# Altium integrated library JF_master_lib.IntLib: 38 symbols
Pins are listed as number, name and electrical type; pins without a type are passive.

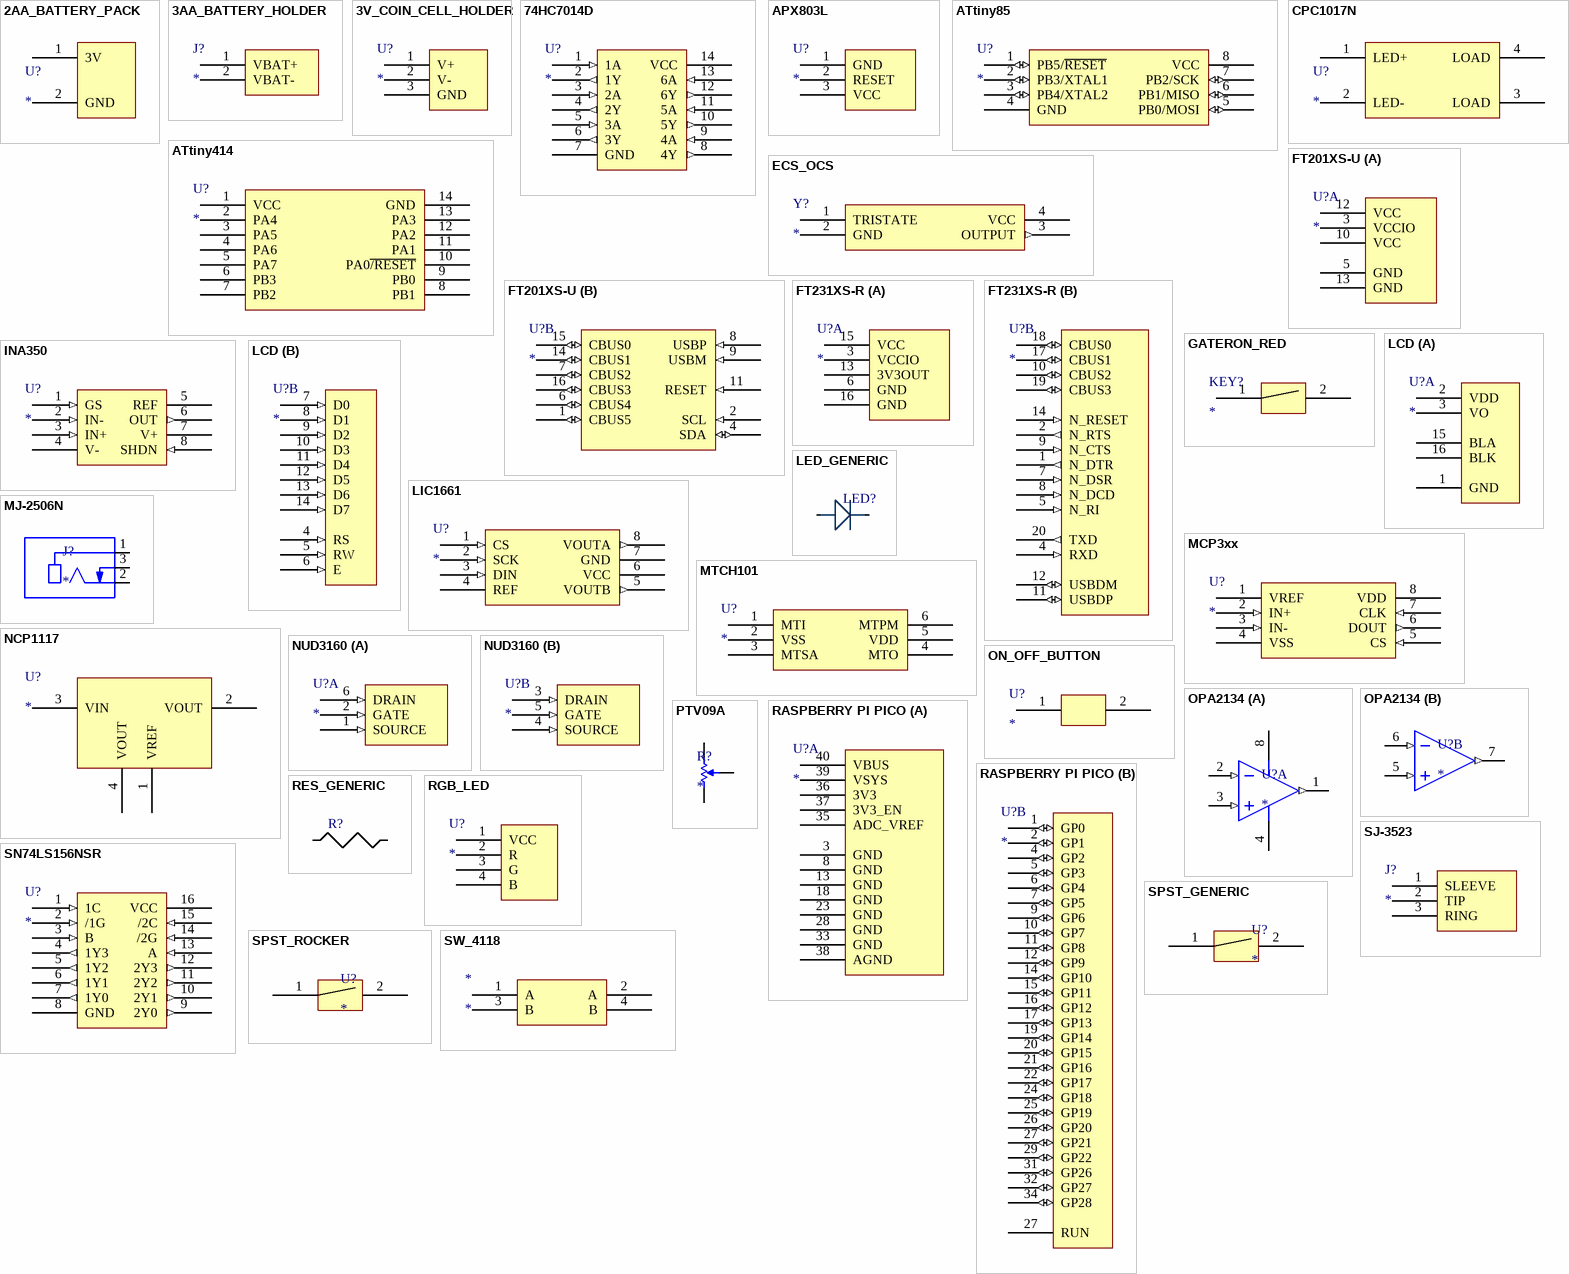
[diagram p0: symbols 2AA_BATTERY_PACK to SW_4118]

## 2AA_BATTERY_PACK
designator U?
footprint 2AA_BATTERY_PACK
pins: 1 3V (power), 2 GND (power)

## 3AA_BATTERY_HOLDER
designator J?
footprint 3AA_BATTERY_HOLDER
pins: 1 VBAT+ (power), 2 VBAT- (power)

## 3V_COIN_CELL_HOLDER
designator U?
Linx Technologies 712-BAT-HLD-003-SMT
footprint 3V_COIN_CELL_HOLDER
pins: 1 V+ (power), 2 V- (power), 3 GND (power)

## 74HC7014D
designator U?
footprint SO14 (SOP, 14-Leads, Body 8.65x3.90mm, Pitch 1.27mm, IPC Medium Density)
pins: 1 1A (in), 2 1Y (out), 3 2A (in), 4 2Y (out), 5 3A (in), 6 3Y (out), 7 GND (power), 8 4Y (out), 9 4A (in), 10 5Y (out), 11 5A (in), 12 6Y (out), 13 6A (in), 14 VCC (power)

## APX803L
designator U?
footprint sot23a (SOT-23; 3 Leads; Body 3.0 x 2.5 mm, inc. leads (LxW max))
pins: 1 GND (power), 2 RESET (oc), 3 VCC (power)

## ATtiny85
designator U?
pins: 1 PB5/~{RESET} (io), 2 PB3/XTAL1 (io), 3 PB4/XTAL2 (io), 4 GND (power), 5 PB0/MOSI (io), 6 PB1/MISO (io), 7 PB2/SCK (io), 8 VCC (power)

## ATtiny414
designator U?
footprint SOIC-14
pins: 1 VCC (power), 2 PA4, 3 PA5, 4 PA6, 5 PA7, 6 PB3, 7 PB2, 8 PB1, 9 PB0, 10 PA0~{/RESET}, 11 PA1, 12 PA2, 13 PA3, 14 GND (power)

## CPC1017N
designator U?
footprint CPC1017N
pins: 1 LED+, 2 LED-, 3 LOAD, 4 LOAD

## ECS_OCS
designator Y?
footprint ECS_OSC
pins: 1 TRISTATE, 2 GND (power), 3 OUTPUT (out), 4 VCC (power)

## FT201XS-U
designator U?
footprint SSOP-16 (SOP, 16-Leads, Body 4.90x3.91mm, Pitch 0.64mm, IPC Medium Density)
part A pins: 3 VCCIO (power), 5 GND (power), 10 VCC (power), 12 VCC (power), 13 GND (power)
part B pins: 1 CBUS5 (io), 2 SCL (in), 4 SDA (io), 6 CBUS4 (io), 7 CBUS2 (io), 8 USBP (in), 9 USBM (in), 11 RESET (in), 14 CBUS1 (io), 15 CBUS0 (io), 16 CBUS3 (io)

## FT231XS-R
designator U?
footprint SSOP-20 (SOP, 20-Leads, Body 8.65x3.91mm, Pitch 0.64mm, IPC Medium Density)
part A pins: 3 VCCIO (power), 6 GND (power), 13 3V3OUT (power), 15 VCC (power), 16 GND (power)
part B pins: 1 N_DTR (out), 2 N_RTS (out), 4 RXD (in), 5 N_RI (in), 7 N_DSR (in), 8 N_DCD (in), 9 N_CTS (in), 10 CBUS2 (io), 11 USBDP (io), 12 USBDM (io), 14 N_RESET (in), 17 CBUS1 (io), 18 CBUS0 (io), 19 CBUS3 (io), 20 TXD (out)

## GATERON_RED
designator KEY?
footprint GATERON_RED
pins: 1, 2

## INA350
designator U?
footprint SOT-23-8
pins: 1 GS (in), 2 IN- (in), 3 IN+ (in), 4 V- (power), 5 REF (power), 6 OUT (out), 7 V+ (power), 8 SHDN (in)

## LCD
designator U?
footprint LCD
part A pins: 1 GND (power), 2 VDD (power), 3 VO (power), 15 BLA (power), 16 BLK (power)
part B pins: 4 RS (in), 5 RW (in), 6 E (in), 7 D0 (in), 8 D1 (in), 9 D2 (in), 10 D3 (in), 11 D4 (in), 12 D5 (in), 13 D6 (in), 14 D7 (in)

## LED_GENERIC
designator LED?, comment LED?  (value not drawn)
footprint LED_TH
pins: 1, 2

## LIC1661
designator U?
pins: 1 CS (in), 2 SCK (in), 3 DIN (in), 4 REF (power), 5 VOUTB (out), 6 VCC (power), 7 GND (power), 8 VOUTA (out)

## MCP3xx
designator U?
footprint SOIC-8 (SOIC, 8-Leads, Body 4.90x3.90mm, Pitch 1.27mm, IPC Medium Density)
pins: 1 VREF (power), 2 IN+ (in), 3 IN- (in), 4 VSS (power), 5 CS (in), 6 DOUT (out), 7 CLK (in), 8 VDD (power)

## MJ-2506N
designator J?
2.5 mm, Mono, Right Angle, Through Hole, Audio Jack Connector; MF: CUI Devices; MP: MJ-2506N; Value: *; Price: None; Package: None; CUI_purchase_URL: https://www.cuidevices.com/product/interconnect/connectors/audio-connectors/jacks/mj-2506n?utm_source=snapeda.com&utm_medium=referral&utm_campaign=snapedaBOM; SnapEDA_Link: https://www.snapeda.com/parts/MJ-2506N/CUI%20Devices/view-part/666188/?ref=snap; Availability: Unavailable
footprint CUI_MJ-2506N
pins: 1, 2, 3

## MTCH101
designator U?
footprint SOT-23-6
pins: 1 MTI, 2 VSS (power), 3 MTSA, 4 MTO, 5 VDD (power), 6 MTPM

## NCP1117
designator U?
footprint SOT-223 (SOT223, 4-Leads, Body 6.50x7.00mm (avg), Pitch 2.30mm, IPC Medium Density)
pins: 1 VREF (power), 2 VOUT (power), 3 VIN (power), 4 VOUT (power)

## NUD3160
designator U?
footprint SC-74 (SOT23, 6-Leads, Body 3.00x2.75mm, Pitch 0.95mm, IPC Medium Density)
part A pins: 1 SOURCE (in), 2 GATE (in), 6 DRAIN (in)
part B pins: 3 DRAIN (in), 4 SOURCE (in), 5 GATE (in)

## ON_OFF_BUTTON
designator U?
footprint ON_OFF_SWITCH
pins: 1 (power), 2 (power)

## OPA2134
designator U?
footprint SOIC-8 (SOIC, 8-Leads, Body 4.90x3.90mm, Pitch 1.27mm, IPC Medium Density)
part A pins: 1 OUT (out) "Output", 2 -IN (in) "Inverting input", 3 +IN (in) "Noninverting input", 4 V- (power) "Negative (lowest) power supply", 8 V+ (power) "Positive (highest) power supply"
part B pins: 5 +IN (in) "Noninverting input", 6 -IN (in) "Inverting input", 7 OUT (out) "Output"

## PTV09A
designator R?
footprint PTV09A
pins: 1 B, 2 TAP, 3 A

## RASPBERRY PI PICO
designator U?
part A pins: 3 GND (power), 8 GND (power), 13 GND (power), 18 GND (power), 23 GND (power), 28 GND (power), 33 GND (power), 35 ADC_VREF (power), 36 3V3 (power), 37 3V3_EN (power), 38 AGND (power), 39 VSYS (power), 40 VBUS (power)
part B pins: 1 GP0 (io), 2 GP1 (io), 4 GP2 (io), 5 GP3 (io), 6 GP4 (io), 7 GP5 (io), 9 GP6 (io), 10 GP7 (io), 11 GP8 (io), 12 GP9 (io), 14 GP10 (io), 15 GP11 (io), 16 GP12 (io), 17 GP13 (io), 19 GP14 (io), 20 GP15 (io), 21 GP16 (io), 22 GP17 (io), 24 GP18 (io), 25 GP19 (io), 26 GP20 (io), 27 GP21 (io), 27 RUN, 29 GP22 (io), 31 GP26 (io), 32 GP27 (io), 34 GP28 (io)

## RES_GENERIC
designator R?  (value not drawn)
footprint RES_TH
pins: 1, 2

## RGB_LED
designator U?
footprint RGB_LED
pins: 1 VCC, 2 R, 3 G, 4 B

## SJ-3523
designator J?
footprint SJ-352X
pins: 1 SLEEVE, 2 TIP, 3 RING

## SN74LS156NSR
designator U?
footprint SOIC-16 (SOIC, 16-Leads, Body 10.20x5.30mm, Pitch 1.27mm, IPC Medium Density)
pins: 1 1C (in), 2 /1G (in), 3 B (in), 4 1Y3 (out), 5 1Y2 (out), 6 1Y1 (out), 7 1Y0 (out), 8 GND (power), 9 2Y0 (out), 10 2Y1 (out), 11 2Y2 (out), 12 2Y3 (out), 13 A (in), 14 /2G (in), 15 /2C (in), 16 VCC (power)

## SPST_GENERIC
designator U?
pins: 1, 2

## SPST_ROCKER
designator U?
footprint RR5
pins: 1, 2

## SW_4118
designator *
footprint SW_4118
footprint SW_4118_FLAT
pins: 1 A, 2 A, 3 B, 4 B

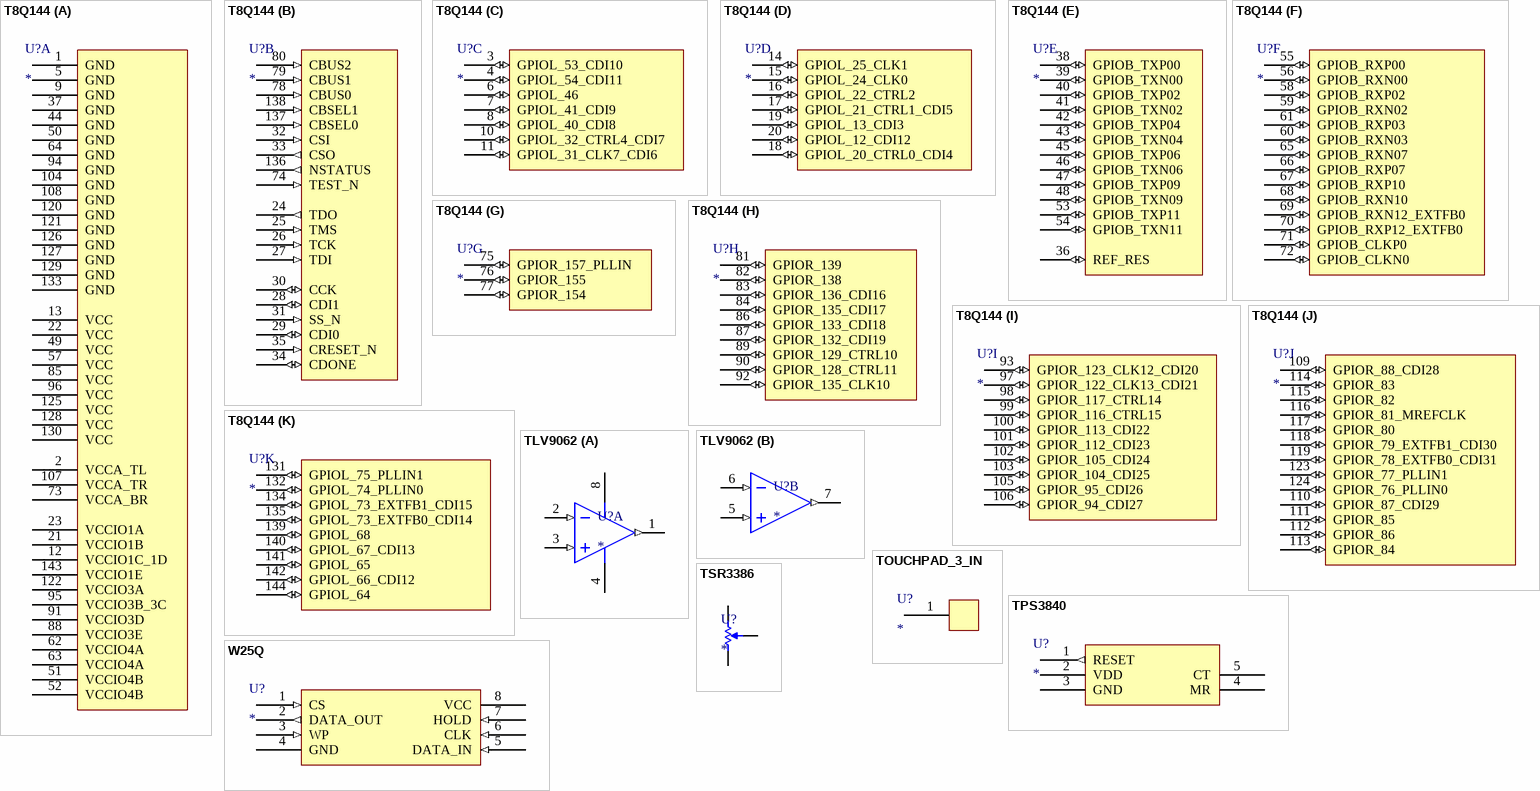
[diagram p1: symbols T8Q144 to W25Q]

## T8Q144
designator U?
footprint LQFP144 (TSQFP, 144-Leads, Body 20.00x20.00mm, Pitch 0.50mm, IPC Medium Density)
part A pins: 1 GND (power), 2 VCCA_TL (power), 5 GND (power), 9 GND (power), 12 VCCIO1C_1D (power), 13 VCC (power), 21 VCCIO1B (power), 22 VCC (power), 23 VCCIO1A (power), 37 GND (power), 44 GND (power), 49 VCC (power), 50 GND (power), 51 VCCIO4B (power), 52 VCCIO4B (power), 57 VCC (power), 62 VCCIO4A (power), 63 VCCIO4A (power), 64 GND (power), 73 VCCA_BR (power), 85 VCC (power), 88 VCCIO3E (power), 91 VCCIO3D (power), 94 GND (power), 95 VCCIO3B_3C (power), 96 VCC (power), 104 GND (power), 107 VCCA_TR (power), 108 GND (power), 120 GND (power), 121 GND (power), 122 VCCIO3A (power), 125 VCC (power), 126 GND (power), 127 GND (power), 128 VCC (power), 129 GND (power), 130 VCC (power), 133 GND (power), 143 VCCIO1E (power)
part B pins: 24 TDO (out), 25 TMS (in), 26 TCK (in), 27 TDI (in), 28 CDI1 (io), 29 CDI0 (io), 30 CCK (io), 31 SS_N (in), 32 CSI (in), 33 CSO (out), 34 CDONE (io), 35 CRESET_N (in), 74 TEST_N (in), 78 CBUS0 (in), 79 CBUS1 (in), 80 CBUS2 (in), 136 NSTATUS (out), 137 CBSEL0 (in), 138 CBSEL1 (in)
part C pins: 3 GPIOL_53_CDI10 (io), 4 GPIOL_54_CDI11 (io), 6 GPIOL_46 (io), 7 GPIOL_41_CDI9 (io), 8 GPIOL_40_CDI8 (io), 10 GPIOL_32_CTRL4_CDI7 (io), 11 GPIOL_31_CLK7_CDI6 (io)
part D pins: 14 GPIOL_25_CLK1 (io), 15 GPIOL_24_CLK0 (io), 16 GPIOL_22_CTRL2 (io), 17 GPIOL_21_CTRL1_CDI5 (io), 18 GPIOL_20_CTRL0_CDI4 (io), 19 GPIOL_13_CDI3 (io), 20 GPIOL_12_CDI12 (io)
part E pins: 36 REF_RES (io), 38 GPIOB_TXP00 (io), 39 GPIOB_TXN00 (io), 40 GPIOB_TXP02 (io), 41 GPIOB_TXN02 (io), 42 GPIOB_TXP04 (io), 43 GPIOB_TXN04 (io), 45 GPIOB_TXP06 (io), 46 GPIOB_TXN06 (io), 47 GPIOB_TXP09 (io), 48 GPIOB_TXN09 (io), 53 GPIOB_TXP11 (io), 54 GPIOB_TXN11 (io)
part F pins: 55 GPIOB_RXP00 (io), 56 GPIOB_RXN00 (io), 58 GPIOB_RXP02 (io), 59 GPIOB_RXN02 (io), 60 GPIOB_RXN03 (io), 61 GPIOB_RXP03 (io), 65 GPIOB_RXN07 (io), 66 GPIOB_RXP07 (io), 67 GPIOB_RXP10 (io), 68 GPIOB_RXN10 (io), 69 GPIOB_RXN12_EXTFB0 (io), 70 GPIOB_RXP12_EXTFB0 (io), 71 GPIOB_CLKP0 (io), 72 GPIOB_CLKN0 (io)
part G pins: 75 GPIOR_157_PLLIN (io), 76 GPIOR_155 (io), 77 GPIOR_154 (io)
part H pins: 81 GPIOR_139 (io), 82 GPIOR_138 (io), 83 GPIOR_136_CDI16 (io), 84 GPIOR_135_CDI17 (io), 86 GPIOR_133_CDI18 (io), 87 GPIOR_132_CDI19 (io), 89 GPIOR_129_CTRL10 (io), 90 GPIOR_128_CTRL11 (io), 92 GPIOR_135_CLK10 (io)
part I pins: 93 GPIOR_123_CLK12_CDI20 (io), 97 GPIOR_122_CLK13_CDI21 (io), 98 GPIOR_117_CTRL14 (io), 99 GPIOR_116_CTRL15 (io), 100 GPIOR_113_CDI22 (io), 101 GPIOR_112_CDI23 (io), 102 GPIOR_105_CDI24 (io), 103 GPIOR_104_CDI25 (io), 105 GPIOR_95_CDI26 (io), 106 GPIOR_94_CDI27 (io)
part J pins: 109 GPIOR_88_CDI28 (io), 110 GPIOR_87_CDI29 (io), 111 GPIOR_85 (io), 112 GPIOR_86 (io), 113 GPIOR_84 (io), 114 GPIOR_83 (io), 115 GPIOR_82 (io), 116 GPIOR_81_MREFCLK (io), 117 GPIOR_80 (io), 118 GPIOR_79_EXTFB1_CDI30 (io), 119 GPIOR_78_EXTFB0_CDI31 (io), 123 GPIOR_77_PLLIN1 (io), 124 GPIOR_76_PLLIN0 (io)
part K pins: 131 GPIOL_75_PLLIN1 (io), 132 GPIOL_74_PLLIN0 (io), 134 GPIOL_73_EXTFB1_CDI15 (io), 135 GPIOL_73_EXTFB0_CDI14 (io), 139 GPIOL_68 (io), 140 GPIOL_67_CDI13 (io), 141 GPIOL_65 (io), 142 GPIOL_66_CDI12 (io), 144 GPIOL_64 (io)

## TLV9062
designator U?
footprint SOIC-8 (SOIC, 8-Leads, Body 4.90x3.90mm, Pitch 1.27mm, IPC Medium Density)
part A pins: 1 OUT (out) "Output", 2 -IN (in) "Inverting input", 3 +IN (in) "Noninverting input", 4 V- (power) "Negative (lowest) power supply", 8 V+ (power) "Positive (highest) power supply"
part B pins: 5 +IN (in) "Noninverting input", 6 -IN (in) "Inverting input", 7 OUT (out) "Output"

## TOUCHPAD_3_IN
designator U?
footprint TOUCHPAD_3_IN
pins: 1

## TPS3840
designator U?
footprint SOT-23 (SOT23, 5-Leads, Body 2.90x2.80mm, Pitch 0.95mm, IPC Medium Density)
pins: 1 RESET (out), 2 VDD (power), 3 GND (power), 4 MR, 5 CT

## TSR3386
designator U?
footprint TSR3386
pins: 1 B, 2 TAP, 3 A

## W25Q
designator U?
footprint SOIC-8 (SOIC, 8-Leads, Body 4.90x3.90mm, Pitch 1.27mm, IPC Medium Density)
pins: 1 CS (in), 2 DATA_OUT (out), 3 WP (in), 4 GND (power), 5 DATA_IN (in), 6 CLK (in), 7 HOLD (in), 8 VCC (power)